# Altium footprint library ZJY130-IPS.PcbLib: 1 footprints
Each footprint in its own frame and in the unit in brackets; x right, y up, seen from the top. Pads: shape width x height; smd on the part's side, far side on the other; paste and mask are expansions set on the pad; w line width, h text height; cw(c..) or ccw(c..) is an arc to the next point about the centre after c.
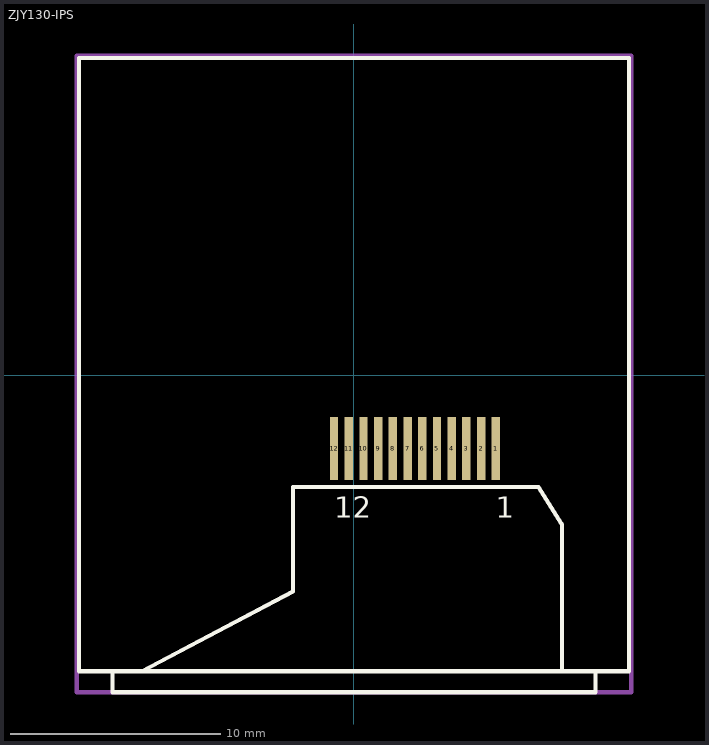
[diagram p0: the footprint, top view; thin cyan lines are the x and y axes]

## ZJY130-IPS [mm]
pads (12):
  rect 0.4x3 smd: 1(6.75,-3.5) 2(6.05,-3.5) 3(5.35,-3.5) 4(4.65,-3.5) 5(3.95,-3.5) 6(3.25,-3.5) 7(2.55,-3.5) 8(1.85,-3.5) 9(1.15,-3.5) 10(0.45,-3.5) 11(-0.25,-3.5) 12(-0.95,-3.5)
Top Overlay:
  lines w0.2: -11.5,-14.1 -11.5,-15.1 11.5,-15.1 11.5,-14.1 ; -10.1,-14.1 -2.9,-10.3 -2.9,-5.325 8.779,-5.325 9.9,-7.1 9.9,-9.35 9.908,-14.1 ; -13.1,-14.1 13.1,-14.1 13.1,15.1 -13.1,15.1 -13.1,-14.1
  text "1" at 6.75,-6.8 h1
  text "12" at -0.95,-6.8 h1
Border (Mech15):
  lines w0.2: -13.2,-15.1 -13.2,15.2 13.2,15.2 13.2,-15.1 -13.2,-15.1
3D body: height 0.13, standoff 0.1, extent -11.5,-15.1 11.5,-5.325
3D body: height 1.63, standoff 0.18, extent -13.1,-14.1 13.1,15.1